# Altium integrated library Resistor 0402.IntLib: 42 symbols
Pins are listed as number, name and electrical type; pins without a type are passive.

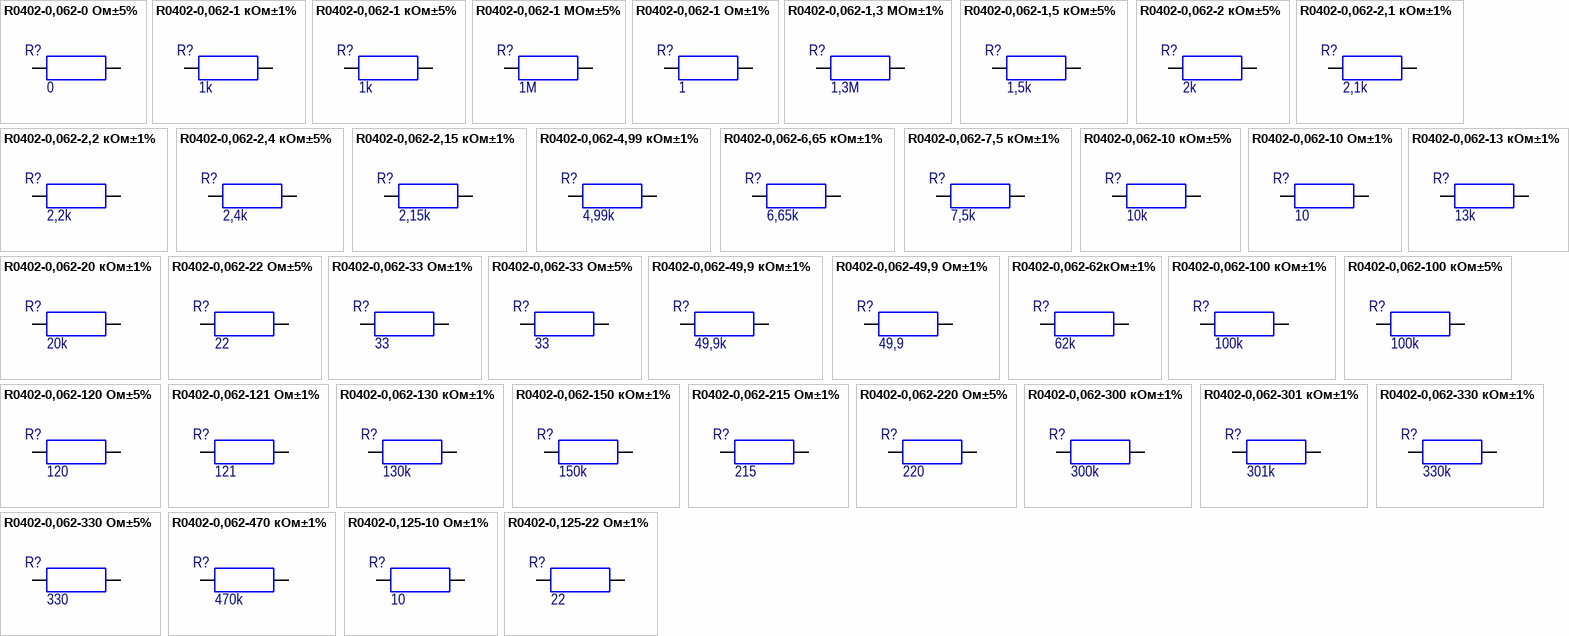
[diagram p0: symbols R0402-0,062-0 Ом±5% to R0402-0,125-22 Ом±1%]

## R0402-0,062-0 Ом±5%
designator R?  value 0
RES 0.0 OHM 1/16W JUMP 0402 SMD; Manufacturer: Vishay Dale; ManufacturerPartNumber: CRCW04020000Z0; Group: 9130; RegulationProcent: 10; TypeName: Резистор; Distributor: Digi-Key; DistributorPartNumber: 541-0.0JDKR-ND; LatestRevisionDate: 19.09.2014; Library: Resistor 0402; Package: 1005 [0402]; Published: 22.09.2014; Publisher: Stanchik A
footprint RESC1005N [0402] (Chip Resistor, Body 1.1x0.5mm, IPC Medium Density)
footprint Custom 1005 (Chip Resistor, Body 1.1x0.5mm)
pins: 1, 2

## R0402-0,062-1 кОм±1%
designator R?  value 1k
RES 1.00K OHM 1/16W 1% 0402 SMD; Manufacturer: Vishay Dale; ManufacturerPartNumber: CRCW04021K00FK; Group: 9130; RegulationProcent: 10; TypeName: Резистор; Distributor: Digi-Key; DistributorPartNumber: 541-1.00KLDKR-ND; LatestRevisionDate: 19.09.2014; Library: Resistor 0402; Package: 1005 [0402]; Published: 22.09.2014; Publisher: Stanchik A
footprint RESC1005N [0402] (Chip Resistor, Body 1.1x0.5mm, IPC Medium Density)
footprint Custom 1005 (Chip Resistor, Body 1.1x0.5mm)
pins: 1, 2

## R0402-0,062-1 кОм±5%
designator R?  value 1k
RES SMD 1K OHM 5% 1/16W 0402; Manufacturer: Vishay Dale; ManufacturerPartNumber: CRCW04021K00JN; Group: 9130; RegulationProcent: 10; TypeName: Резистор; Distributor: Digi-Key; DistributorPartNumber: 541-1.0KJCT-ND; LatestRevisionDate: 28.10.2016; Library: Resistor 0402; Package: 1005 [0402]; Published: 28.10.2016; Publisher: Stanchik A
footprint RESC1005N [0402] (Chip Resistor, Body 1.1x0.5mm, IPC Medium Density)
footprint Custom 1005 (Chip Resistor, Body 1.1x0.5mm)
pins: 1, 2

## R0402-0,062-1 МОм±5%
designator R?  value 1M
RES SMD 1M OHM 5% 1/16W 0402; Manufacturer: Vishay Dale; ManufacturerPartNumber: CRCW04021M00JN; Group: 9130; RegulationProcent: 10; TypeName: Резистор; Distributor: Digi-Key; DistributorPartNumber: 541-1.0MJCT-ND; LatestRevisionDate: 28.10.2016; Library: Resistor 0402; Package: 1005 [0402]; Published: 28.10.2016; Publisher: Stanchik A
footprint RESC1005N [0402] (Chip Resistor, Body 1.1x0.5mm, IPC Medium Density)
footprint Custom 1005 (Chip Resistor, Body 1.1x0.5mm)
pins: 1, 2

## R0402-0,062-1 Ом±1%
designator R?  value 1
RES SMD 1 OHM 1% 1/16W 0402; Manufacturer: Vishay Dale; ManufacturerPartNumber: CRCW04021R00FK; Group: 9130; RegulationProcent: 10; TypeName: Резистор; Distributor: Digi-Key; DistributorPartNumber: 541-1.00LLCT-ND; LatestRevisionDate: 05.02.2015; Library: Resistor 0402; Package: 1005 [0402]; Published: 05.02.2015; Publisher: Stanchik A
footprint RESC1005N [0402] (Chip Resistor, Body 1.1x0.5mm, IPC Medium Density)
footprint Custom 1005 (Chip Resistor, Body 1.1x0.5mm)
pins: 1, 2

## R0402-0,062-1,3 МОм±1%
designator R?  value 1,3M
RES SMD 1.3M OHM 1% 1/10W 0603; Manufacturer: Vishay Dale; ManufacturerPartNumber: CRCW06031M30FK; Group: 9130; RegulationProcent: 10; TypeName: Резистор; Distributor: Digi-Key; DistributorPartNumber: 541-1.30MHCT-ND; LatestRevisionDate: 11.04.2017; Library: Resistor 0402; Package: 1005 [0402]; Published: 11.04.2017; Publisher: Stanchik A
footprint RESC1005N [0402] (Chip Resistor, Body 1.1x0.5mm, IPC Medium Density)
footprint Custom 1005 (Chip Resistor, Body 1.1x0.5mm)
pins: 1, 2

## R0402-0,062-1,5 кОм±5%
designator R?  value 1,5k
RES 1.5K OHM 1/16W 5% 0402 SMD; Manufacturer: Vishay Dale; ManufacturerPartNumber: CRCW04021K50JN; Group: 9130; RegulationProcent: 10; TypeName: Резистор; Distributor: Digi-Key; DistributorPartNumber: 541-1.5KJDKR-ND; LatestRevisionDate: 22.09.2014; Library: Resistor 0402; Package: 1005 [0402]; Published: 22.09.2014; Publisher: Stanchik A
footprint RESC1005N [0402] (Chip Resistor, Body 1.1x0.5mm, IPC Medium Density)
footprint Custom 1005 (Chip Resistor, Body 1.1x0.5mm)
pins: 1, 2

## R0402-0,062-2 кОм±5%
designator R?  value 2k
RES SMD 2K OHM 5% 1/16W 0402; Manufacturer: Vishay Dale; ManufacturerPartNumber: CRCW04022K00JN; Group: 9130; RegulationProcent: 10; TypeName: Резистор; Distributor: Digi-Key; DistributorPartNumber: 541-2.0KJCT-ND; LatestRevisionDate: 18.03.2016; Library: Resistor 0402; Package: 1005 [0402]; Published: 18.03.2016; Publisher: Stanchik A
footprint RESC1005N [0402] (Chip Resistor, Body 1.1x0.5mm, IPC Medium Density)
footprint Custom 1005 (Chip Resistor, Body 1.1x0.5mm)
pins: 1, 2

## R0402-0,062-2,1 кОм±1%
designator R?  value 2,1k
RES 2.10K OHM 1/16W 1% 0402 SMD; Manufacturer: Vishay Dale; ManufacturerPartNumber: CRCW04022K10FK; Group: 9130; RegulationProcent: 10; TypeName: Резистор; Distributor: Digi-Key; DistributorPartNumber: 541-2.10KLDKR-ND; LatestRevisionDate: 19.11.2014; Library: Resistor 0402; Package: 1005 [0402]; Published: 19.11.2014; Publisher: Stanchik A
footprint RESC1005N [0402] (Chip Resistor, Body 1.1x0.5mm, IPC Medium Density)
footprint Custom 1005 (Chip Resistor, Body 1.1x0.5mm)
pins: 1, 2

## R0402-0,062-2,2 кОм±1%
designator R?  value 2,2k
RES SMD 2.2K OHM 1% 1/16W 0402; Manufacturer: Vishay Dale; ManufacturerPartNumber: CRCW04022K20FK; Group: 9130; RegulationProcent: 10; TypeName: Резистор; Distributor: Digi-Key; DistributorPartNumber: 541-2.20KLCT-ND; LatestRevisionDate: 10.01.2015; Library: Resistor 0402; Package: 1005 [0402]; Published: 10.01.2015; Publisher: Stanchik A
footprint RESC1005N [0402] (Chip Resistor, Body 1.1x0.5mm, IPC Medium Density)
footprint Custom 1005 (Chip Resistor, Body 1.1x0.5mm)
pins: 1, 2

## R0402-0,062-2,4 кОм±5%
designator R?  value 2,4k
RES SMD 2.4K OHM 5% 1/16W 0402; Manufacturer: Vishay Dale; ManufacturerPartNumber: CRCW04022K40JN; Group: 9130; RegulationProcent: 10; TypeName: Резистор; Distributor: Digi-Key; DistributorPartNumber: 541-2.4KJCT-ND; LatestRevisionDate: 10.01.2015; Library: Resistor 0402; Package: 1005 [0402]; Published: 10.01.2015; Publisher: Stanchik A
footprint RESC1005N [0402] (Chip Resistor, Body 1.1x0.5mm, IPC Medium Density)
footprint Custom 1005 (Chip Resistor, Body 1.1x0.5mm)
pins: 1, 2

## R0402-0,062-2,15 кОм±1%
designator R?  value 2,15k
RES SMD 2.15K OHM 1% 1/16W 0402; Manufacturer: Vishay Dale; ManufacturerPartNumber: CRCW04022K15FK; Group: 9130; RegulationProcent: 10; TypeName: Резистор; Distributor: Digi-Key; DistributorPartNumber: 541-2.15KLCT-ND; LatestRevisionDate: 10.01.2015; Library: Resistor 0402; Package: 1005 [0402]; Published: 10.01.2015; Publisher: Stanchik A
footprint RESC1005N [0402] (Chip Resistor, Body 1.1x0.5mm, IPC Medium Density)
footprint Custom 1005 (Chip Resistor, Body 1.1x0.5mm)
pins: 1, 2

## R0402-0,062-4,99 кОм±1%
designator R?  value 4,99k
RES 4.99K OHM 1/16W 1% 0402 SMD; Manufacturer: Vishay Dale; ManufacturerPartNumber: CRCW04024K99FK; Group: 9130; RegulationProcent: 10; TypeName: Резистор; Distributor: Digi-Key; DistributorPartNumber: 541-4.99KLDKR-ND; LatestRevisionDate: 19.11.2014; Library: Resistor 0402; Package: 1005 [0402]; Published: 19.11.2014; Publisher: Stanchik A
footprint RESC1005N [0402] (Chip Resistor, Body 1.1x0.5mm, IPC Medium Density)
footprint Custom 1005 (Chip Resistor, Body 1.1x0.5mm)
pins: 1, 2

## R0402-0,062-6,65 кОм±1%
designator R?  value 6,65k
RES SMD 6.65K OHM 1% 1/16W 0402; Manufacturer: Vishay Dale; ManufacturerPartNumber: CRCW04026K65FK; Group: 9130; RegulationProcent: 10; TypeName: Резистор; Distributor: Digi-Key; DistributorPartNumber: 541-6.65KLCT-ND; LatestRevisionDate: 18.03.2016; Library: Resistor 0402; Package: 1005 [0402]; Published: 18.03.2016; Publisher: Stanchik A
footprint RESC1005N [0402] (Chip Resistor, Body 1.1x0.5mm, IPC Medium Density)
footprint Custom 1005 (Chip Resistor, Body 1.1x0.5mm)
pins: 1, 2

## R0402-0,062-7,5 кОм±1%
designator R?  value 7,5k
RES 7.50K OHM 1/16W 1% 0402 SMD; Manufacturer: Vishay Dale; ManufacturerPartNumber: CRCW04027K50FK; Group: 9130; RegulationProcent: 10; TypeName: Резистор; Distributor: Digi-Key; DistributorPartNumber: 541-7.50KLDKR-ND; LatestRevisionDate: 19.11.2014; Library: Resistor 0402; Package: 1005 [0402]; Published: 19.11.2014; Publisher: Stanchik A
footprint RESC1005N [0402] (Chip Resistor, Body 1.1x0.5mm, IPC Medium Density)
footprint Custom 1005 (Chip Resistor, Body 1.1x0.5mm)
pins: 1, 2

## R0402-0,062-10 кОм±5%
designator R?  value 10k
RES 10K OHM 1/16W 5% 0402 SMD; Manufacturer: Vishay Dale; ManufacturerPartNumber: CRCW040210K0JN; Group: 9130; RegulationProcent: 10; TypeName: Резистор; Distributor: Digi-Key; DistributorPartNumber: 541-10KJDKR-ND; LatestRevisionDate: 22.09.2014; Library: Resistor 0402; Package: 1005 [0402]; Published: 22.09.2014; Publisher: Stanchik A
footprint RESC1005N [0402] (Chip Resistor, Body 1.1x0.5mm, IPC Medium Density)
footprint Custom 1005 (Chip Resistor, Body 1.1x0.5mm)
pins: 1, 2

## R0402-0,062-10 Ом±1%
designator R?  value 10
RES SMD 10 OHM 1% 1/16W 0402; Manufacturer: Vishay Dale; ManufacturerPartNumber: CRCW040210R0FK; Group: 9130; TypeName: Резистор; Distributor: Digi-Key; DistributorPartNumber: 541-10.0LCT-ND; LatestRevisionDate: 10.01.2015; Library: Resistor 0402; Package: 1005 [0402]; Published: 10.01.2015; Publisher: Stanchik A; RegulationProcent: 10
footprint RESC1005N [0402] (Chip Resistor, Body 1.1x0.5mm, IPC Medium Density)
footprint Custom 1005 (Chip Resistor, Body 1.1x0.5mm)
pins: 1, 2

## R0402-0,062-13 кОм±1%
designator R?  value 13k
RES SMD 13K OHM 1% 1/16W 0402; Manufacturer: Vishay Dale; ManufacturerPartNumber: CRCW040213K0FK; Group: 9130; RegulationProcent: 10; TypeName: Резистор; Distributor: Digi-Key; DistributorPartNumber: 541-13.0KLCT-ND; LatestRevisionDate: 05.02.2015; Library: Resistor 0402; Package: 1005 [0402]; Published: 05.02.2015; Publisher: Stanchik A
footprint RESC1005N [0402] (Chip Resistor, Body 1.1x0.5mm, IPC Medium Density)
footprint Custom 1005 (Chip Resistor, Body 1.1x0.5mm)
pins: 1, 2

## R0402-0,062-20 кОм±1%
designator R?  value 20k
RES 20.0K OHM 1/16W 1% 0402 SMD; Manufacturer: Vishay Dale; ManufacturerPartNumber: CRCW040220K0FK; Group: 9130; RegulationProcent: 10; TypeName: Резистор; Distributor: Digi-Key; DistributorPartNumber: 541-20.0KLDKR-ND; LatestRevisionDate: 22.09.2014; Library: Resistor 0402; Package: 1005 [0402]; Published: 22.09.2014; Publisher: Stanchik A
footprint RESC1005N [0402] (Chip Resistor, Body 1.1x0.5mm, IPC Medium Density)
footprint Custom 1005 (Chip Resistor, Body 1.1x0.5mm)
pins: 1, 2

## R0402-0,062-22 Ом±5%
designator R?  value 22
RES SMD 22 OHM 5% 1/16W 0402; Manufacturer: Vishay Dale; ManufacturerPartNumber: CRCW040222R0JN; Group: 9130; RegulationProcent: 10; TypeName: Резистор; Distributor: Digi-Key; DistributorPartNumber: 541-22JCT-ND; LatestRevisionDate: 18.03.2016; Library: Resistor 0402; Package: 1005 [0402]; Published: 18.03.2016; Publisher: Stanchik A
footprint RESC1005N [0402] (Chip Resistor, Body 1.1x0.5mm, IPC Medium Density)
footprint Custom 1005 (Chip Resistor, Body 1.1x0.5mm)
pins: 1, 2

## R0402-0,062-33 Ом±1%
designator R?  value 33
RES SMD 33 OHM 1% 1/16W 0402; Manufacturer: Vishay Dale; ManufacturerPartNumber: CRCW040233R0FK; Group: 9130; RegulationProcent: 10; TypeName: Резистор; Distributor: Digi-Key; DistributorPartNumber: 541-33.0LCT-ND; LatestRevisionDate: 10.01.2015; Library: Resistor 0402; Package: 1005 [0402]; Published: 10.01.2015; Publisher: Stanchik A
footprint RESC1005N [0402] (Chip Resistor, Body 1.1x0.5mm, IPC Medium Density)
footprint Custom 1005 (Chip Resistor, Body 1.1x0.5mm)
pins: 1, 2

## R0402-0,062-33 Ом±5%
designator R?  value 33
RES SMD 33 OHM 5% 1/16W 0402; Manufacturer: Vishay Dale; ManufacturerPartNumber: CRCW040233R0JN; Group: 9130; RegulationProcent: 10; TypeName: Резистор; Distributor: Digi-Key; DistributorPartNumber: 541-33JCT-ND; LatestRevisionDate: 10.01.2015; Library: Resistor 0402; Package: 1005 [0402]; Published: 10.01.2015; Publisher: Stanchik A
footprint RESC1005N [0402] (Chip Resistor, Body 1.1x0.5mm, IPC Medium Density)
footprint Custom 1005 (Chip Resistor, Body 1.1x0.5mm)
pins: 1, 2

## R0402-0,062-49,9 кОм±1%
designator R?  value 49,9k
RES SMD 49.9K OHM 1% 1/16W 0402; Manufacturer: Vishay Dale; ManufacturerPartNumber: CRCW040249K9FK; Group: 9130; RegulationProcent: 10; TypeName: Резистор; Distributor: Digi-Key; DistributorPartNumber: 541-49.9KLCT-ND; LatestRevisionDate: 18.03.2016; Library: Resistor 0402; Package: 1005 [0402]; Published: 18.03.2016; Publisher: Stanchik A
footprint RESC1005N [0402] (Chip Resistor, Body 1.1x0.5mm, IPC Medium Density)
footprint Custom 1005 (Chip Resistor, Body 1.1x0.5mm)
pins: 1, 2

## R0402-0,062-49,9 Ом±1%
designator R?  value 49,9
RES 49.9 OHM 1/16W 1% 0402 SMD; Manufacturer: Vishay Dale; ManufacturerPartNumber: CRCW040249R9FK; Group: 9130; RegulationProcent: 10; TypeName: Резистор; Distributor: Digi-Key; DistributorPartNumber: 541-49.9LDKR-ND; LatestRevisionDate: 19.09.2014; Library: Resistor 0402; Package: 1005 [0402]; Published: 22.09.2014; Publisher: Stanchik A
footprint RESC1005N [0402] (Chip Resistor, Body 1.1x0.5mm, IPC Medium Density)
footprint Custom 1005 (Chip Resistor, Body 1.1x0.5mm)
pins: 1, 2

## R0402-0,062-62кОм±1%
designator R?  value 62k
RES SMD 62K OHM 1% 1/16W 0402; Manufacturer: Vishay Dale; ManufacturerPartNumber: CRCW040262K0FK; Group: 9130; RegulationProcent: 10; TypeName: Резистор; Distributor: Digi-Key; DistributorPartNumber: 541-62.0KLCT-ND; LatestRevisionDate: 24.07.2015; Library: Resistor 0402; Package: 1005 [0402]; Published: 24.07.2015; Publisher: Stanchik A
footprint RESC1005N [0402] (Chip Resistor, Body 1.1x0.5mm, IPC Medium Density)
footprint Custom 1005 (Chip Resistor, Body 1.1x0.5mm)
pins: 1, 2

## R0402-0,062-100 кОм±1%
designator R?  value 100k
RES SMD 100K OHM 1% 1/16W 0402; Manufacturer: Vishay Dale; ManufacturerPartNumber: CRCW0402100KFK; Group: 9130; RegulationProcent: 10; TypeName: Резистор; Distributor: Digi-Key; DistributorPartNumber: 541-100KLCT-ND; LatestRevisionDate: 05.02.2015; Library: Resistor 0402; Package: 1005 [0402]; Published: 05.02.2015; Publisher: Stanchik A
footprint RESC1005N [0402] (Chip Resistor, Body 1.1x0.5mm, IPC Medium Density)
footprint Custom 1005 (Chip Resistor, Body 1.1x0.5mm)
pins: 1, 2

## R0402-0,062-100 кОм±5%
designator R?  value 100k
RES SMD 100K OHM 5% 1/16W 0402; Manufacturer: Vishay Dale; ManufacturerPartNumber: CRCW0402100KJN; Group: 9130; RegulationProcent: 10; TypeName: Резистор; Distributor: Digi-Key; DistributorPartNumber: 541-100KJCT-ND; LatestRevisionDate: 28.10.2016; Library: Resistor 0402; Package: 1005 [0402]; Published: 28.10.2016; Publisher: Stanchik A
footprint RESC1005N [0402] (Chip Resistor, Body 1.1x0.5mm, IPC Medium Density)
footprint Custom 1005 (Chip Resistor, Body 1.1x0.5mm)
pins: 1, 2

## R0402-0,062-120 Ом±5%
designator R?  value 120
RES SMD 120 OHM 5% 1/16W 0402; Manufacturer: Vishay Dale; ManufacturerPartNumber: CRCW0402120RJN; Group: 9130; RegulationProcent: 10; TypeName: Резистор; Distributor: Digi-Key; DistributorPartNumber: 541-120JCT-ND; LatestRevisionDate: 27.10.2016; Library: Resistor 0402; Package: 1005 [0402]; Published: 27.10.2016; Publisher: Stanchik A
footprint RESC1005N [0402] (Chip Resistor, Body 1.1x0.5mm, IPC Medium Density)
footprint Custom 1005 (Chip Resistor, Body 1.1x0.5mm)
pins: 1, 2

## R0402-0,062-121 Ом±1%
designator R?  value 121
RES SMD 121 OHM 1% 1/16W 0402; Manufacturer: Vishay Dale; ManufacturerPartNumber: CRCW0402121RFK; Group: 9130; RegulationProcent: 10; TypeName: Резистор; Distributor: Digi-Key; DistributorPartNumber: 541-121LCT-ND; LatestRevisionDate: 23.10.2017; Library: Resistor 0402; Package: 1005 [0402]; Published: 23.10.2017; Publisher: Stanchik A
footprint RESC1005N [0402] (Chip Resistor, Body 1.1x0.5mm, IPC Medium Density)
footprint Custom 1005 (Chip Resistor, Body 1.1x0.5mm)
pins: 1, 2

## R0402-0,062-130 кОм±1%
designator R?  value 130k
RES SMD 130K OHM 1% 1/16W 0402; Manufacturer: Vishay Dale; ManufacturerPartNumber: CRCW0402130KFK; Group: 9130; RegulationProcent: 10; TypeName: Резистор; Distributor: Digi-Key; DistributorPartNumber: 541-130KLCT-ND; LatestRevisionDate: 05.02.2015; Library: Resistor 0402; Package: 1005 [0402]; Published: 05.02.2015; Publisher: Stanchik A
footprint RESC1005N [0402] (Chip Resistor, Body 1.1x0.5mm, IPC Medium Density)
footprint Custom 1005 (Chip Resistor, Body 1.1x0.5mm)
pins: 1, 2

## R0402-0,062-150 кОм±1%
designator R?  value 150k
RES SMD 150K OHM 1% 1/16W 0402; Manufacturer: Vishay Dale; ManufacturerPartNumber: CRCW0402150KFK; Group: 9130; RegulationProcent: 10; TypeName: Резистор; Distributor: Digi-Key; DistributorPartNumber: 541-150KLCT-ND; LatestRevisionDate: 05.02.2015; Library: Resistor 0402; Package: 1005 [0402]; Published: 05.02.2015; Publisher: Stanchik A
footprint RESC1005N [0402] (Chip Resistor, Body 1.1x0.5mm, IPC Medium Density)
footprint Custom 1005 (Chip Resistor, Body 1.1x0.5mm)
pins: 1, 2

## R0402-0,062-215 Ом±1%
designator R?  value 215
RES SMD 215 OHM 1% 1/16W 0402; Manufacturer: Vishay Dale; ManufacturerPartNumber: CRCW0402215RFK; Group: 9130; RegulationProcent: 10; TypeName: Резистор; Distributor: Digi-Key; DistributorPartNumber: 541-215LCT-ND; LatestRevisionDate: 23.10.2017; Library: Resistor 0402; Package: 1005 [0402]; Published: 23.10.2017; Publisher: Stanchik A
footprint RESC1005N [0402] (Chip Resistor, Body 1.1x0.5mm, IPC Medium Density)
footprint Custom 1005 (Chip Resistor, Body 1.1x0.5mm)
pins: 1, 2

## R0402-0,062-220 Ом±5%
designator R?  value 220
RES 220 OHM 1/16W 5% 0402 SMD; Manufacturer: Vishay Dale; ManufacturerPartNumber: CRCW0402220RJN; Group: 9130; RegulationProcent: 10; TypeName: Резистор; Distributor: Digi-Key; DistributorPartNumber: 541-220JDKR-ND; LatestRevisionDate: 19.09.2014; Library: Resistor 0402; Package: 1005 [0402]; Published: 22.09.2014; Publisher: Stanchik A
footprint RESC1005N [0402] (Chip Resistor, Body 1.1x0.5mm, IPC Medium Density)
footprint Custom 1005 (Chip Resistor, Body 1.1x0.5mm)
pins: 1, 2

## R0402-0,062-300 кОм±1%
designator R?  value 300k
RES SMD 300K OHM 1% 1/16W 0402; Manufacturer: Vishay Dale; ManufacturerPartNumber: CRCW0402300KFK; Group: 9130; RegulationProcent: 10; TypeName: Резистор; Distributor: Digi-Key; DistributorPartNumber: 541-300KLCT-ND; LatestRevisionDate: 05.02.2015; Library: Resistor 0402; Package: 1005 [0402]; Published: 05.02.2015; Publisher: Stanchik A
footprint RESC1005N [0402] (Chip Resistor, Body 1.1x0.5mm, IPC Medium Density)
footprint Custom 1005 (Chip Resistor, Body 1.1x0.5mm)
pins: 1, 2

## R0402-0,062-301 кОм±1%
designator R?  value 301k
RES SMD 301K OHM 1% 1/16W 0402; Manufacturer: Vishay Dale; ManufacturerPartNumber: CRCW0402301KFK; Group: 9130; RegulationProcent: 10; TypeName: Резистор; Distributor: Digi-Key; DistributorPartNumber: 541-301KLCT-ND; LatestRevisionDate: 05.02.2015; Library: Resistor 0402; Package: 1005 [0402]; Published: 05.02.2015; Publisher: Stanchik A
footprint RESC1005N [0402] (Chip Resistor, Body 1.1x0.5mm, IPC Medium Density)
footprint Custom 1005 (Chip Resistor, Body 1.1x0.5mm)
pins: 1, 2

## R0402-0,062-330 кОм±1%
designator R?  value 330k
RES SMD 330K OHM 1% 1/16W 0402; Manufacturer: Vishay Dale; ManufacturerPartNumber: CRCW0402330KFK; Group: 9130; RegulationProcent: 10; TypeName: Резистор; Distributor: Digi-Key; DistributorPartNumber: 541-330KLCT-ND; LatestRevisionDate: 05.02.2015; Library: Resistor 0402; Package: 1005 [0402]; Published: 05.02.2015; Publisher: Stanchik A
footprint RESC1005N [0402] (Chip Resistor, Body 1.1x0.5mm, IPC Medium Density)
footprint Custom 1005 (Footprint not found)
pins: 1, 2

## R0402-0,062-330 Ом±5%
designator R?  value 330
RES SMD 330 OHM 5% 1/16W 0402; Manufacturer: Vishay Dale; ManufacturerPartNumber: CRCW0402330RJN; Group: 9130; RegulationProcent: 10; TypeName: Резистор; Distributor: Digi-Key; DistributorPartNumber: 541-330JCT-ND; LatestRevisionDate: 18.03.2016; Library: Resistor 0402; Package: 1005 [0402]; Published: 18.03.2016; Publisher: Stanchik A
footprint RESC1005N [0402] (Chip Resistor, Body 1.1x0.5mm, IPC Medium Density)
footprint Custom 1005 (Chip Resistor, Body 1.1x0.5mm)
pins: 1, 2

## R0402-0,062-470 кОм±1%
designator R?  value 470k
RES SMD 470K OHM 1% 1/10W 0603; Manufacturer: Vishay Dale; ManufacturerPartNumber: CRCW0603470KFK; Group: 9130; RegulationProcent: 10; TypeName: Резистор; Distributor: Digi-Key; DistributorPartNumber: 541-470KHCT-ND; LatestRevisionDate: 11.04.2017; Library: Resistor 0402; Package: 1005 [0402]; Published: 11.04.2017; Publisher: Stanchik A
footprint RESC1005N [0402] (Chip Resistor, Body 1.1x0.5mm, IPC Medium Density)
footprint Custom 1005 (Chip Resistor, Body 1.1x0.5mm)
pins: 1, 2

## R0402-0,125-10 Ом±1%
designator R?  value 10
RES SMD 10 OHM 1% 1/8W 0402; Manufacturer: Vishay Dale; ManufacturerPartNumber: CRCW040210R0FK; Group: 9130; TypeName: Резистор; Distributor: Digi-Key; DistributorPartNumber: 541-10.0YCT-ND; LatestRevisionDate: 10.01.2015; Library: Resistor 0402; Package: 1005 [0402]; Published: 10.01.2015; Publisher: Stanchik A; RegulationProcent: 10
footprint RESC1005N [0402] (Chip Resistor, Body 1.1x0.5mm, IPC Medium Density)
footprint Custom 1005 (Chip Resistor, Body 1.1x0.5mm)
pins: 1, 2

## R0402-0,125-22 Ом±1%
designator R?  value 22
RES SMD 22 OHM 1% 1/8W 0402; Manufacturer: Vishay Dale; ManufacturerPartNumber: CRCW040222R0FK; Group: 9130; RegulationProcent: 10; TypeName: Резистор; Distributor: Digi-Key; DistributorPartNumber: 541-22.0YCT-ND; LatestRevisionDate: 10.01.2015; Library: Resistor 0402; Package: 1005 [0402]; Published: 10.01.2015; Publisher: Stanchik A
footprint RESC1005N [0402] (Chip Resistor, Body 1.1x0.5mm, IPC Medium Density)
footprint Custom 1005 (Chip Resistor, Body 1.1x0.5mm)
pins: 1, 2

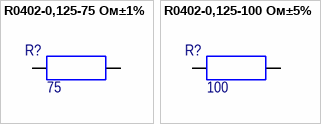
[diagram p1: symbols R0402-0,125-75 Ом±1% to R0402-0,125-100 Ом±5%]

## R0402-0,125-75 Ом±1%
designator R?  value 75
RES 75.0 OHM .125W 1% 0402 SMD; Manufacturer: Vishay Dale; ManufacturerPartNumber: CRCW040275R0FK; Group: 9130; RegulationProcent: 10; TypeName: Резистор; Distributor: Digi-Key; DistributorPartNumber: 541-75.0YDKR-ND; LatestRevisionDate: 22.09.2014; Library: Resistor 0402; Package: 1005 [0402]; Published: 22.09.2014; Publisher: Stanchik A
footprint RESC1005N [0402] (Chip Resistor, Body 1.1x0.5mm, IPC Medium Density)
footprint Custom 1005 (Chip Resistor, Body 1.1x0.5mm)
pins: 1, 2

## R0402-0,125-100 Ом±5%
designator R?  value 100
RES 100 OHM .125W 5% 0402 SMD; Manufacturer: Vishay Dale; ManufacturerPartNumber: CRCW0402100RJN; Group: 9130; RegulationProcent: 10; TypeName: Резистор; Distributor: Digi-Key; DistributorPartNumber: 541-100YADKR-ND; LatestRevisionDate: 22.09.2014; Library: Resistor 0402; Package: 1005 [0402]; Published: 22.09.2014; Publisher: Stanchik A
footprint RESC1005N [0402] (Chip Resistor, Body 1.1x0.5mm, IPC Medium Density)
footprint Custom 1005 (Chip Resistor, Body 1.1x0.5mm)
pins: 1, 2